# Altium schematic symbol library IC_Linear.SchLib: 12 symbols
Pins are listed as number, name and electrical type; pins without a type are passive.

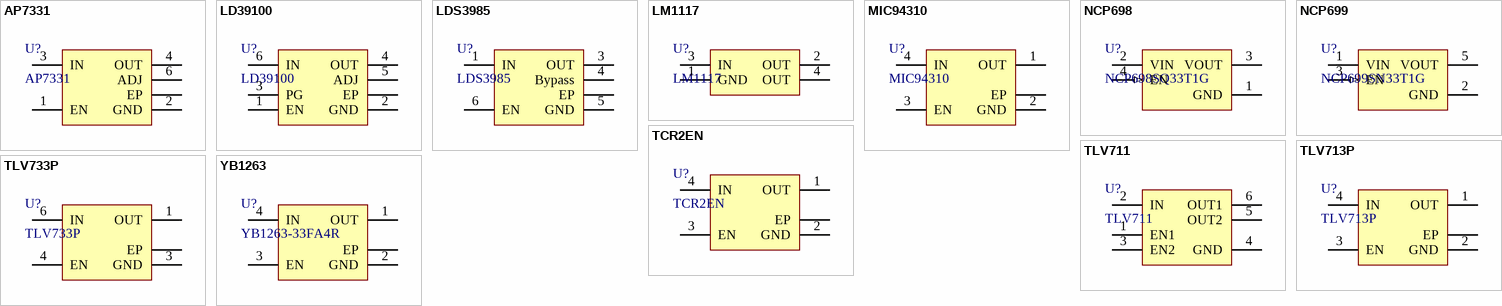
[diagram p0: symbols AP7331 to YB1263]

## AP7331
designator U?
300mA LOW Iq FAST TRANSIENT LDO; HelpURL: http://www.diodes.com/_files/datasheets/AP7331.pdf
footprint DFN-6-0.65-2x2_2via (QFN, 6-Leads, Body 2,00x2,00mm, Pitch 0,65mm, Thermal Pad 1,55x0,86mm, IPC Medium Density)
footprint DFN-6-0.65-2x2_8via (QFN, 6-Leads, Body 2,00x2,00mm, Pitch 0,65mm, Thermal Pad 1,55x0,86mm, IPC Medium Density)
footprint DFN-6-0.65-2x2_novia (QFN, 6-Leads, Body 2,00x2,00mm, Pitch 0,65mm, Thermal Pad 1,55x0,86mm, IPC Medium Density)
pins: 0 EP, 1 EN, 2 GND, 3 IN, 4 OUT, 6 ADJ

## LD39100
designator U?
1A low Iq, low noise LDO
footprint DFN-6-0.95-3x3 (SON, 6-Leads, Body 3,00x3,00mm, Pitch 0,95mm, Thermal Pad 2,50x1,72mm, IPC High Density)
pins: 0 EP, 1 EN, 2 GND, 3 PG, 4 OUT, 5 ADJ, 6 IN

## LDS3985
designator U?
300mA CMOS LDO Regulator in ultra small package
footprint DFN-6-0.95-3x3 (SON, 6-Leads, Body 3,00x3,00mm, Pitch 0,95mm, Thermal Pad 2,50x1,72mm, IPC High Density)
pins: 0 EP, 1 IN, 3 OUT, 4 Bypass, 5 GND, 6 EN

## LM1117
designator U?
Low-Dropout Linear Regulator; Current[A]: 0.8; Datasheet: http://www.ti.com/lit/ds/symlink/lm1117.pdf
footprint SOT-223 (SOT223, 4-Leads, Body 6,50x7,00mm (avg), Pitch 2,30mm, IPC Medium Density)
pins: 1 GND, 2 OUT, 3 IN, 4 OUT

## MIC94310
designator U?
200mA LDO with RippleBlocker; HelpURL: http://ww1.microchip.com/downloads/en/DeviceDoc/MIC94310.pdf; Supplier: https://www.digikey.com/product-detail/en/microchip-technology/MIC94310-4YMT-TR/576-4767-1-ND/4864031
footprint DFN-4-0.5_1.2x1.6 (SON, 4-Leads, Body 1,20x1,60mm, Pitch 0,50mm, Thermal Pad 0,86x0,42mm, IPC Medium Density)
pins: 0 EP, 1 OUT, 2 GND, 3 EN, 4 IN

## NCP698
designator U?, comment NCP698SQ33T1G
Low-Dropout Linear Regulator; Current[A]: 0.15; Iq_mA: 2.5; Accuracy_percent: 2; Datasheet: http://www.onsemi.com/pub/Collateral/NCP698-D.PDF; Name: NCP698SQ33T1G; BOMString: NCP698SQ33T1G
footprint SC-70-4 (SOT143, 4-Leads, Body 2,00x2,10mm, Pitch 1,30mm, IPC Medium Density)
pins: 1 GND (power), 2 VIN (power), 3 VOUT (power), 4 EN (in)

## NCP699
designator U?, comment NCP699SN33T1G
150 mA CMOS Low Iq LDO with Enable; Current[A]: 0.15; Iq_mA: 2.5; Accuracy_percent: 2; HelpURL: https://www.onsemi.com/pub/Collateral/NCP699-D.PDF; Name: NCP699SN33T1G; BOMString: NCP699SN33T1G
footprint SOT-23-5
pins: 1 VIN (power), 2 GND (power), 3 EN (in), 5 VOUT (power)

## TCR2EN
designator U?
200mA CMOS LDO Regulator in ultra small package
footprint SDFN4
pins: 0 EP, 1 OUT, 2 GND, 3 EN, 4 IN

## TLV711
designator U?
Dual 200mA Low Iq LDO for Portable Devices; HelpURL: http://www.ti.com/lit/ds/symlink/tlv7111225.pdf
footprint DFN-6-0.5-1.5x1.5 (SON, 6-Leads, Body 1,50x1,50mm, Pitch 0,50mm, IPC High Density)
pins: 1 EN1, 2 IN, 3 EN2, 4 GND, 5 OUT2, 6 OUT1

## TLV713P
designator U?
150 mA LDO regulator
footprint X2SON
pins: 1 OUT, 2 GND, 3 EN, 4 IN, EP

## TLV733P
designator U?
Capacitor-Free 300mA LDO; HelpURL: http://www.ti.com/lit/ds/symlink/tlv733p-q1.pdf
footprint DFN-6-0.65-2x2_8via (QFN, 6-Leads, Body 2,00x2,00mm, Pitch 0,65mm, Thermal Pad 1,55x0,86mm, IPC Medium Density)
footprint DFN-6-0.65-2x2_novia (QFN, 6-Leads, Body 2,00x2,00mm, Pitch 0,65mm, Thermal Pad 1,55x0,86mm, IPC Medium Density)
footprint DFN-6-0.65-2x2_4via (QFN, 6-Leads, Body 2,00x2,00mm, Pitch 0,65mm, Thermal Pad 1,55x0,86mm, IPC Medium Density)
footprint DFN-6-0.65-2x2_2via (QFN, 6-Leads, Body 2,00x2,00mm, Pitch 0,65mm, Thermal Pad 1,55x0,86mm, IPC Medium Density)
pins: 0 EP, 1 OUT, 3 GND, 4 EN, 6 IN

## YB1263
designator U?, comment YB1263-33FA4R
300mA High PSRR Low Dropout Voltage Regulator; BOMString: YB1263-33FA4R; Name: YB1263-33FA4R
footprint X2SON (UDFN-4L)
footprint SOT-23; pin to pad 1>2 2>1 3>none 4>3 EP>none
footprint SOT-23-5; pin to pad 1>5 4>1 EP>none
footprint SOT-323-4 (SC-82); pin to pad 1>3 3>1 EP>none
pins: 1 OUT, 2 GND, 3 EN, 4 IN, EP